# Altium schematic symbol library CD4043B.SchLib: 1 symbol
Pins are listed as number, name and electrical type; pins without a type are passive.

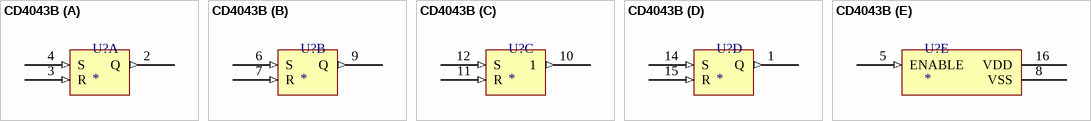
[diagram p0: symbol CD4043B]

## CD4043B
designator U?
footprint TI-PW16_L (SOP, 16-Leads, Body 5x4.4mm, Pitch 0.65mm, IPC High Density)
footprint TI-PW16_M (SOP, 16-Leads, Body 5x4.4mm, Pitch 0.65mm, IPC Low Density)
footprint TI-PW16_N (SOP, 16-Leads, Body 5x4.4mm, Pitch 0.65mm, IPC Medium Density)
part A pins: 2 Q (out), 3 R (in), 4 S (in)
part B pins: 6 S (in), 7 R (in), 9 Q (out)
part C pins: 10 1 (out), 11 R (in), 12 S (in)
part D pins: 1 Q (out), 14 S (in), 15 R (in)
part E pins: 5 ENABLE (in), 8 VSS (power), 13 NC hidden, 16 VDD (power)